# EAGLE library part X-OSC (library x-io-EAGLE-Library)
x-OSC <http://www.x-io.co.uk/products/x-osc/> foot print for SMD or through-hole headers.
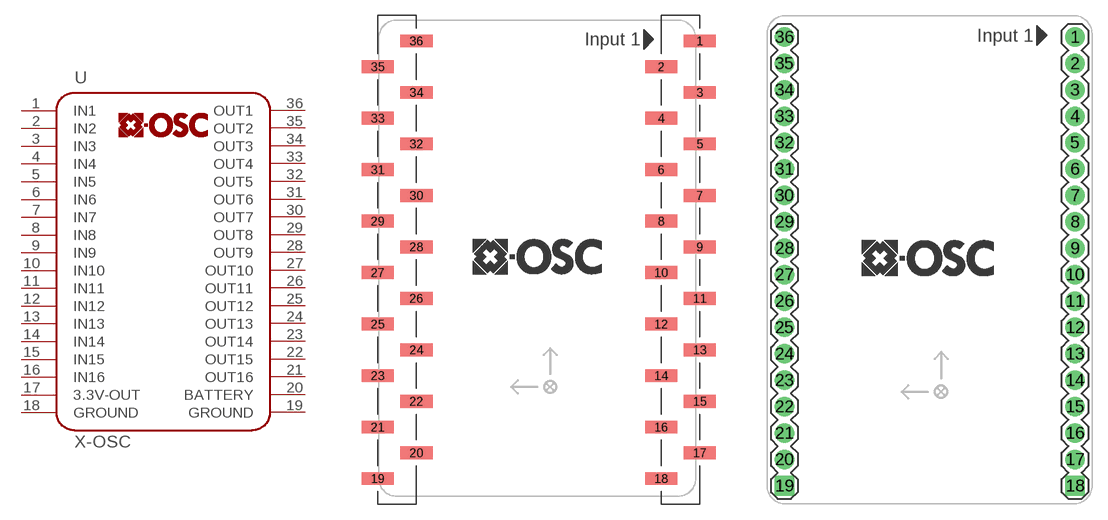
[diagram p0: symbol with the pads of X-OSC_SMD; footprints X-OSC_SMD, X-OSC_TH]

Designator prefix -

## X-OSC-SMD  [X-OSC_SMD]
1  IN1
2  IN2
3  IN3
4  IN4
5  IN5
6  IN6
7  IN7
8  IN8
9  IN9
10  IN10
11  IN11
12  IN12
13  IN13
14  IN14
15  IN15
16  IN16
17  3.3V-OUT
18  GROUND
19  GROUND
20  BATTERY
21  OUT16
22  OUT15
23  OUT14
24  OUT13
25  OUT12
26  OUT11
27  OUT10
28  OUT9
29  OUT8
30  OUT7
31  OUT6
32  OUT5
33  OUT4
34  OUT3
35  OUT2
36  OUT1

## X-OSC-TH  [X-OSC_TH]
Pads as for X-OSC_SMD

## Footprint X-OSC_SMD (pad centres in mm)
Surface mount foot print for x-OSC <http://www.x-io.co.uk/products/x-osc/>. Comprised of two low-profile male headers, part number: TSM-118-04-F-SV <http://www.toby.co.uk/content/catalogue/products.aspx?series=TSM-1xx-xx-SV> from Toby Electronics.
smd 3.17 x 1.27: 1 16.031,21.434; 2 12.221,18.894; 3 16.031,16.354; 4 12.221,13.814; 5 16.031,11.274; 6 12.221,8.734; 7 16.031,6.194; 8 12.221,3.654; 9 16.031,1.114; 10 12.221,-1.426; 11 16.031,-3.966; 12 12.221,-6.506; 13 16.031,-9.046; 14 12.221,-11.586; 15 16.031,-14.126; 16 12.221,-16.666; 17 16.031,-19.206; 18 12.221,-21.746; 19 -15.719,-21.746; 20 -11.909,-19.206; 21 -15.719,-16.666; 22 -11.909,-14.126; 23 -15.719,-11.586; 24 -11.909,-9.046; 25 -15.719,-6.506; 26 -11.909,-3.966; 27 -15.719,-1.426; 28 -11.909,1.114; 29 -15.719,3.654; 30 -11.909,6.194; 31 -15.719,8.734; 32 -11.909,11.274; 33 -15.719,13.814; 34 -11.909,16.354; 35 -15.719,18.894; 36 -11.909,21.434

## Footprint X-OSC_TH (pad centres in mm)
Through-hole foot print for x-OSC <http://www.x-io.co.uk/products/x-osc/>. Comprised of two low-profile male headers.
drill 1.016 pad 1.88: 1 14.129,21.431; 2 14.129,18.891; 3 14.129,16.351; 4 14.129,13.811; 5 14.129,11.271; 6 14.129,8.731; 7 14.129,6.191; 8 14.129,3.651; 9 14.129,1.111; 10 14.129,-1.429; 11 14.129,-3.969; 12 14.129,-6.509; 13 14.129,-9.049; 14 14.129,-11.589; 15 14.129,-14.129; 16 14.129,-16.669; 17 14.129,-19.209; 20 -13.811,-19.209; 21 -13.811,-16.669; 22 -13.811,-14.129; 23 -13.811,-11.589; 24 -13.811,-9.049; 25 -13.811,-6.509; 26 -13.811,-3.969; 27 -13.811,-1.429; 28 -13.811,1.111; 29 -13.811,3.651; 30 -13.811,6.191; 31 -13.811,8.731; 32 -13.811,11.271; 33 -13.811,13.811; 34 -13.811,16.351; 35 -13.811,18.891; 36 -13.811,21.431
drill 1.016 pad 1.88 square: 18 14.129,-21.749; 19 -13.811,-21.749